# Altium integrated library FP30-200.IntLib: 1 symbol
Pins are listed as number, name and electrical type; pins without a type are passive.

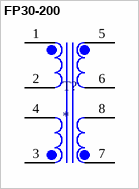
[diagram p0: symbol FP30-200]

## FP30-200
designator T?
Transformer, Power, Toroidal, 1, Freq 50/60Hz, Pri 115/230VAC, Sec 15/30VAC | Triad Magnetics FP30-200; SnapEDA_Link: https://www.snapeda.com/parts/FP30-200/Triad+Magnetics/view-part/?ref=snap; Package: None; Value: *; MF: Triad Magnetics; MP: FP30-200; Check_prices: https://www.snapeda.com/parts/FP30-200/Triad+Magnetics/view-part/?ref=eda
footprint XFMR_FP30-200
pins: 1, 2, 3, 4, 5, 6, 7, 8